# Altium footprint library KF接线端子.PcbLib: 88 footprints (part 4 of 6)
Each footprint in its own frame and in the unit in brackets; x right, y up, seen from the top. Pads: shape width x height; smd on the part's side, far side on the other; paste and mask are expansions set on the pad; w line width, h text height; cw(c..) or ccw(c..) is an arc to the next point about the centre after c.
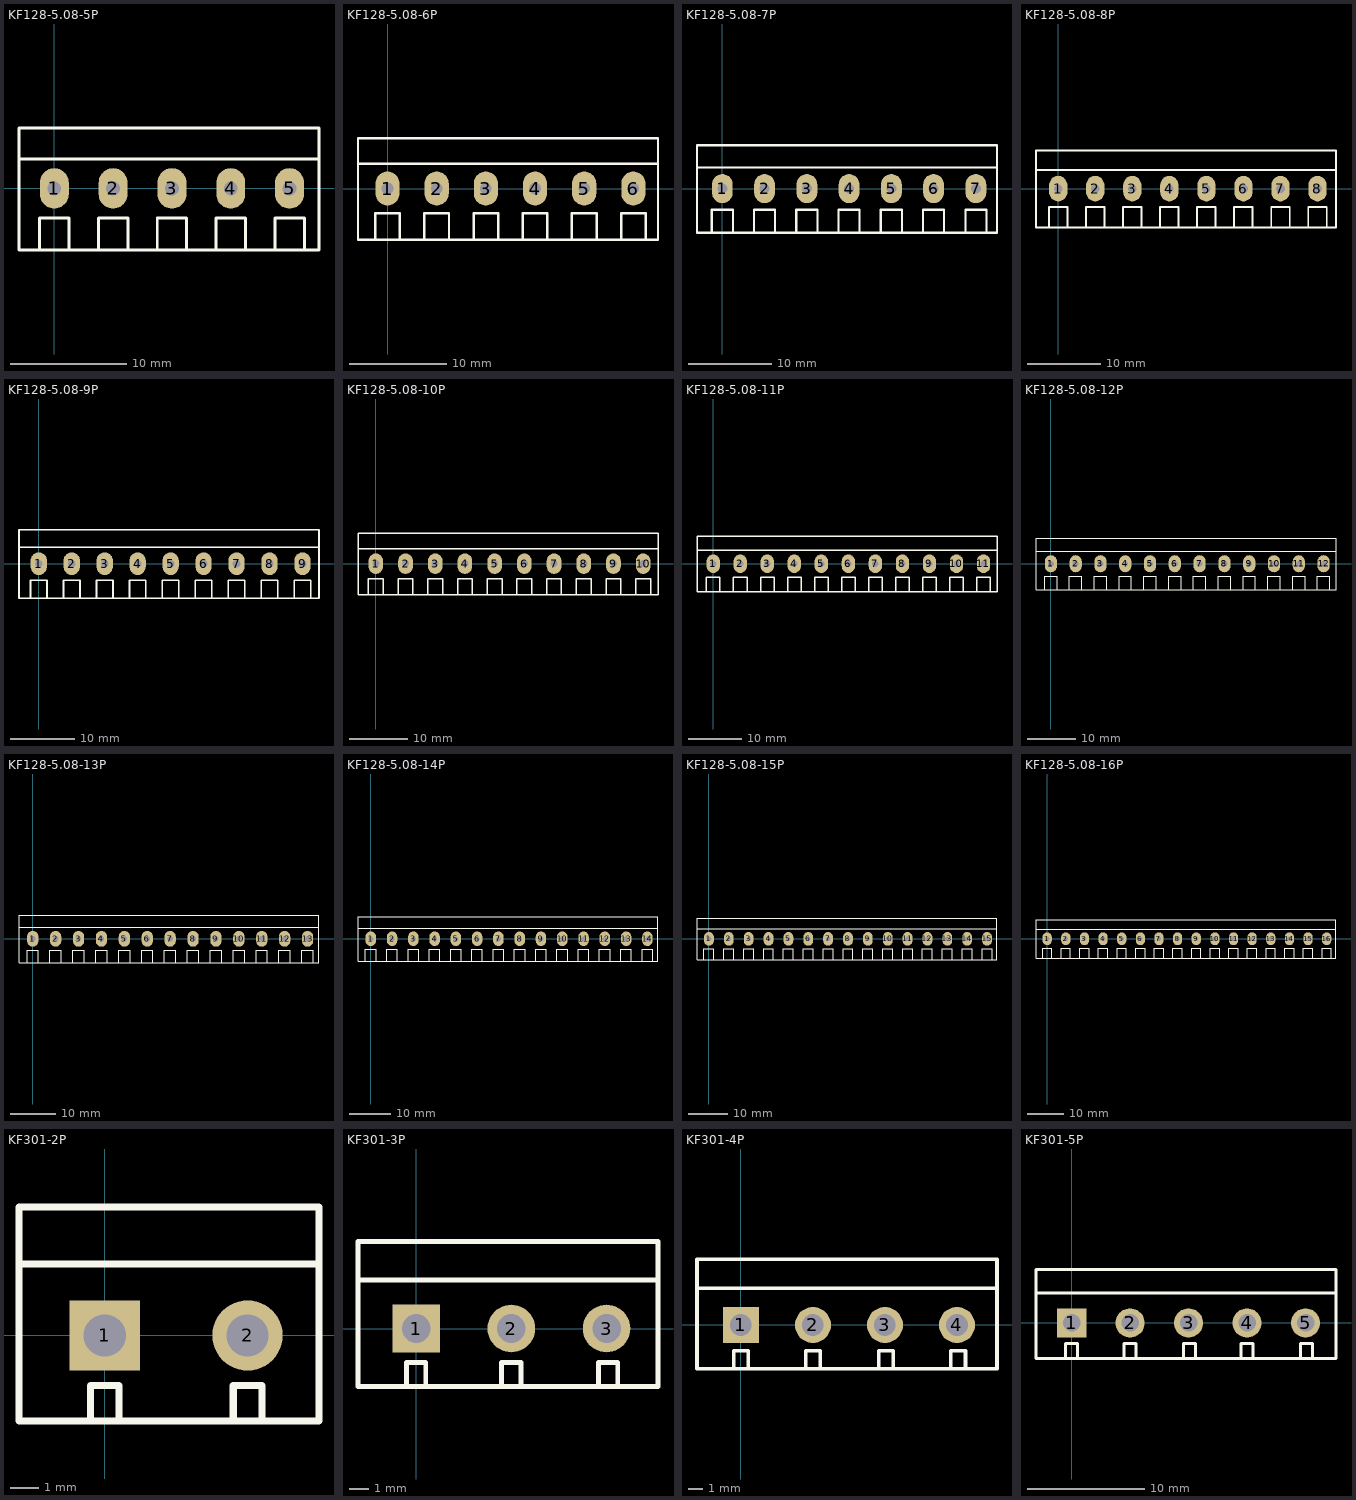
[diagram p3: the footprints below, top view; thin cyan lines are the x and y axes]

## KF128-5.08-5P [mm] "螺钉式接线端子，脚距5.08mm"
pads (5):
  oval 2.5x3.5 hole 1.2: 1(0,0) 2(5.08,0) 3(10.16,0) 4(15.24,0) 5(20.32,0)
Top Overlay:
  lines w0.254: -3.048,2.54 22.86,2.54 ; -1.27,-5.309 -1.27,-2.54 1.27,-2.54 1.27,-5.309 ; 3.81,-5.309 3.81,-2.54 6.35,-2.54 6.35,-5.309 ; 8.89,-5.309 8.89,-2.54 11.43,-2.54 11.43,-5.309 ; 13.97,-5.309 13.97,-2.54 16.51,-2.54 16.51,-5.309 ; 19.05,-5.309 19.05,-2.54 21.59,-2.54 21.59,-5.309 ; -3.048,-5.309 -3.048,5.207 22.86,5.207 22.86,-5.309 -3.048,-5.309
3D body: height 14.15, standoff -3.95, extent 7.12,-5.3 12.7,5.2
3D body: height 14.15, standoff -3.95, extent -3.04,-5.3 2.54,5.2
3D body: height 14.15, standoff -3.95, extent 2.04,-5.3 7.62,5.2
3D body: height 14.15, standoff -3.95, extent 12.2,-5.3 17.78,5.2
3D body: height 14.15, standoff -3.95, extent 17.28,-5.3 22.86,5.2

## KF128-5.08-6P [mm] "螺钉式接线端子，脚距5.08mm"
pads (6):
  oval 2.5x3.5 hole 1.2: 1(0,0) 2(5.08,0) 3(10.16,0) 4(15.24,0) 5(20.32,0) 6(25.4,0)
Top Overlay:
  lines w0.254: -3.048,2.54 27.94,2.54 ; -1.27,-5.309 -1.27,-2.54 1.27,-2.54 1.27,-5.309 ; 3.81,-5.309 3.81,-2.54 6.35,-2.54 6.35,-5.309 ; 8.89,-5.309 8.89,-2.54 11.43,-2.54 11.43,-5.309 ; 13.97,-5.309 13.97,-2.54 16.51,-2.54 16.51,-5.309 ; 19.05,-5.309 19.05,-2.54 21.59,-2.54 21.59,-5.309 ; 24.13,-5.309 24.13,-2.54 26.67,-2.54 26.67,-5.309 ; -3.048,-5.309 27.94,-5.309 27.94,5.207 -3.048,5.207 -3.048,-5.309
3D body: height 14.15, standoff -3.95, extent 17.28,-5.3 22.86,5.2
3D body: height 14.15, standoff -3.95, extent 12.2,-5.3 17.78,5.2
3D body: height 14.15, standoff -3.95, extent 2.04,-5.3 7.62,5.2
3D body: height 14.15, standoff -3.95, extent -3.04,-5.3 2.54,5.2
3D body: height 14.15, standoff -3.95, extent 7.12,-5.3 12.7,5.2
3D body: height 14.15, standoff -3.95, extent 22.36,-5.3 27.94,5.2

## KF128-5.08-7P [mm] "螺钉式接线端子，脚距5.08mm"
pads (7):
  oval 2.5x3.5 hole 1.2: 1(0,0) 2(5.08,0) 3(10.16,0) 4(15.24,0) 5(20.32,0) 6(25.4,0) 7(30.48,0)
Top Overlay:
  lines w0.254: -3.048,2.54 33.02,2.54 ; -1.27,-5.309 -1.27,-2.54 1.27,-2.54 1.27,-5.309 ; 3.81,-5.309 3.81,-2.54 6.35,-2.54 6.35,-5.309 ; 8.89,-5.309 8.89,-2.54 11.43,-2.54 11.43,-5.309 ; 13.97,-5.309 13.97,-2.54 16.51,-2.54 16.51,-5.309 ; 19.05,-5.309 19.05,-2.54 21.59,-2.54 21.59,-5.309 ; 24.13,-5.309 24.13,-2.54 26.67,-2.54 26.67,-5.309 ; 29.21,-5.309 29.21,-2.54 31.75,-2.54 31.75,-5.309 ; -3.048,-5.309 -3.048,5.207 33.02,5.207 33.02,-5.309 -3.048,-5.309
3D body: height 14.15, standoff -3.95, extent 22.36,-5.3 27.94,5.2
3D body: height 14.15, standoff -3.95, extent 7.12,-5.3 12.7,5.2
3D body: height 14.15, standoff -3.95, extent -3.04,-5.3 2.54,5.2
3D body: height 14.15, standoff -3.95, extent 2.04,-5.3 7.62,5.2
3D body: height 14.15, standoff -3.95, extent 12.2,-5.3 17.78,5.2
3D body: height 14.15, standoff -3.95, extent 17.28,-5.3 22.86,5.2
3D body: height 14.15, standoff -3.95, extent 27.44,-5.3 33.02,5.2

## KF128-5.08-8P [mm] "螺钉式接线端子，脚距5.08mm"
pads (8):
  oval 2.5x3.5 hole 1.2: 1(0,0) 2(5.08,0) 3(10.16,0) 4(15.24,0) 5(20.32,0) 6(25.4,0) 7(30.48,0) 8(35.56,0)
Top Overlay:
  lines w0.254: -3.048,2.54 38.1,2.54 ; -1.27,-5.309 -1.27,-2.54 1.27,-2.54 1.27,-5.309 ; 3.81,-5.309 3.81,-2.54 6.35,-2.54 6.35,-5.309 ; 8.89,-5.309 8.89,-2.54 11.43,-2.54 11.43,-5.309 ; 13.97,-5.309 13.97,-2.54 16.51,-2.54 16.51,-5.309 ; 19.05,-5.309 19.05,-2.54 21.59,-2.54 21.59,-5.309 ; 24.13,-5.309 24.13,-2.54 26.67,-2.54 26.67,-5.309 ; 29.21,-5.309 29.21,-2.54 31.75,-2.54 31.75,-5.309 ; 34.29,-5.309 34.29,-2.54 36.83,-2.54 36.83,-5.309 ; -3.048,-5.309 38.1,-5.309 38.1,5.207 -3.048,5.207 -3.048,-5.309
3D body: height 14.15, standoff -3.95, extent 27.44,-5.3 33.02,5.2
3D body: height 14.15, standoff -3.95, extent 17.28,-5.3 22.86,5.2
3D body: height 14.15, standoff -3.95, extent 12.2,-5.3 17.78,5.2
3D body: height 14.15, standoff -3.95, extent 2.04,-5.3 7.62,5.2
3D body: height 14.15, standoff -3.95, extent -3.04,-5.3 2.54,5.2
3D body: height 14.15, standoff -3.95, extent 7.12,-5.3 12.7,5.2
3D body: height 14.15, standoff -3.95, extent 22.36,-5.3 27.94,5.2
3D body: height 14.15, standoff -3.95, extent 32.52,-5.3 38.1,5.2

## KF128-5.08-9P [mm] "螺钉式接线端子，脚距5.08mm"
pads (9):
  oval 2.5x3.5 hole 1.2: 1(0,0) 2(5.08,0) 3(10.16,0) 4(15.24,0) 5(20.32,0) 6(25.4,0) 7(30.48,0) 8(35.56,0) 9(40.64,0)
Top Overlay:
  lines w0.254: -3.048,2.54 43.18,2.54 ; -1.27,-5.309 -1.27,-2.54 1.27,-2.54 1.27,-5.309 ; 3.81,-5.309 3.81,-2.54 6.35,-2.54 6.35,-5.309 ; 8.89,-5.309 8.89,-2.54 11.43,-2.54 11.43,-5.309 ; 13.97,-5.309 13.97,-2.54 16.51,-2.54 16.51,-5.309 ; 19.05,-5.309 19.05,-2.54 21.59,-2.54 21.59,-5.309 ; 24.13,-5.309 24.13,-2.54 26.67,-2.54 26.67,-5.309 ; 29.21,-5.309 29.21,-2.54 31.75,-2.54 31.75,-5.309 ; 34.29,-5.309 34.29,-2.54 36.83,-2.54 36.83,-5.309 ; 39.37,-5.309 39.37,-2.54 41.91,-2.54 41.91,-5.309 ; -3.048,-5.309 -3.048,5.207 43.18,5.207 43.18,-5.309 -3.048,-5.309
3D body: height 14.15, standoff -3.95, extent 32.52,-5.3 38.1,5.2
3D body: height 14.15, standoff -3.95, extent 22.36,-5.3 27.94,5.2
3D body: height 14.15, standoff -3.95, extent 7.12,-5.3 12.7,5.2
3D body: height 14.15, standoff -3.95, extent -3.04,-5.3 2.54,5.2
3D body: height 14.15, standoff -3.95, extent 2.04,-5.3 7.62,5.2
3D body: height 14.15, standoff -3.95, extent 12.2,-5.3 17.78,5.2
3D body: height 14.15, standoff -3.95, extent 17.28,-5.3 22.86,5.2
3D body: height 14.15, standoff -3.95, extent 27.44,-5.3 33.02,5.2
3D body: height 14.15, standoff -3.95, extent 37.6,-5.3 43.18,5.2

## KF128-5.08-10P [mm] "螺钉式接线端子，脚距5.08mm"
pads (10):
  oval 2.5x3.5 hole 1.2: 1(0,0) 2(5.08,0) 3(10.16,0) 4(15.24,0) 5(20.32,0) 6(25.4,0) 7(30.48,0) 8(35.56,0) 9(40.64,0) 10(45.72,0)
Top Overlay:
  lines w0.254: -3.048,2.54 48.26,2.54 ; -1.27,-5.309 -1.27,-2.54 1.27,-2.54 1.27,-5.309 ; 3.81,-5.309 3.81,-2.54 6.35,-2.54 6.35,-5.309 ; 8.89,-5.309 8.89,-2.54 11.43,-2.54 11.43,-5.309 ; 13.97,-5.309 13.97,-2.54 16.51,-2.54 16.51,-5.309 ; 19.05,-5.309 19.05,-2.54 21.59,-2.54 21.59,-5.309 ; 24.13,-5.309 24.13,-2.54 26.67,-2.54 26.67,-5.309 ; 29.21,-5.309 29.21,-2.54 31.75,-2.54 31.75,-5.309 ; 34.29,-5.309 34.29,-2.54 36.83,-2.54 36.83,-5.309 ; 39.37,-5.309 39.37,-2.54 41.91,-2.54 41.91,-5.309 ; 44.45,-5.309 44.45,-2.54 46.99,-2.54 46.99,-5.309 ; -3.048,-5.309 48.26,-5.309 48.26,5.207 -3.048,5.207 -3.048,-5.309
3D body: height 14.15, standoff -3.95, extent 37.6,-5.3 43.18,5.2
3D body: height 14.15, standoff -3.95, extent 27.44,-5.3 33.02,5.2
3D body: height 14.15, standoff -3.95, extent 17.28,-5.3 22.86,5.2
3D body: height 14.15, standoff -3.95, extent 12.2,-5.3 17.78,5.2
3D body: height 14.15, standoff -3.95, extent 2.04,-5.3 7.62,5.2
3D body: height 14.15, standoff -3.95, extent -3.04,-5.3 2.54,5.2
3D body: height 14.15, standoff -3.95, extent 7.12,-5.3 12.7,5.2
3D body: height 14.15, standoff -3.95, extent 22.36,-5.3 27.94,5.2
3D body: height 14.15, standoff -3.95, extent 32.52,-5.3 38.1,5.2
3D body: height 14.15, standoff -3.95, extent 42.68,-5.3 48.26,5.2

## KF128-5.08-11P [mm] "螺钉式接线端子，脚距5.08mm"
pads (11):
  oval 2.5x3.5 hole 1.2: 1(0,0) 2(5.08,0) 3(10.16,0) 4(15.24,0) 5(20.32,0) 6(25.4,0) 7(30.48,0) 8(35.56,0) 9(40.64,0) 10(45.72,0) 11(50.8,0)
Top Overlay:
  lines w0.254: -3.048,2.54 53.34,2.54 ; -1.27,-5.309 -1.27,-2.54 1.27,-2.54 1.27,-5.309 ; 3.81,-5.309 3.81,-2.54 6.35,-2.54 6.35,-5.309 ; 8.89,-5.309 8.89,-2.54 11.43,-2.54 11.43,-5.309 ; 13.97,-5.309 13.97,-2.54 16.51,-2.54 16.51,-5.309 ; 19.05,-5.309 19.05,-2.54 21.59,-2.54 21.59,-5.309 ; 24.13,-5.309 24.13,-2.54 26.67,-2.54 26.67,-5.309 ; 29.21,-5.309 29.21,-2.54 31.75,-2.54 31.75,-5.309 ; 34.29,-5.309 34.29,-2.54 36.83,-2.54 36.83,-5.309 ; 39.37,-5.309 39.37,-2.54 41.91,-2.54 41.91,-5.309 ; 44.45,-5.309 44.45,-2.54 46.99,-2.54 46.99,-5.309 ; 49.53,-5.309 49.53,-2.54 52.07,-2.54 52.07,-5.309 ; -3.048,-5.309 -3.048,5.207 53.34,5.207 53.34,-5.309 -3.048,-5.309
3D body: height 14.15, standoff -3.95, extent 42.68,-5.3 48.26,5.2
3D body: height 14.15, standoff -3.95, extent 32.52,-5.3 38.1,5.2
3D body: height 14.15, standoff -3.95, extent 22.36,-5.3 27.94,5.2
3D body: height 14.15, standoff -3.95, extent 7.12,-5.3 12.7,5.2
3D body: height 14.15, standoff -3.95, extent -3.04,-5.3 2.54,5.2
3D body: height 14.15, standoff -3.95, extent 2.04,-5.3 7.62,5.2
3D body: height 14.15, standoff -3.95, extent 12.2,-5.3 17.78,5.2
3D body: height 14.15, standoff -3.95, extent 17.28,-5.3 22.86,5.2
3D body: height 14.15, standoff -3.95, extent 27.44,-5.3 33.02,5.2
3D body: height 14.15, standoff -3.95, extent 37.6,-5.3 43.18,5.2
3D body: height 14.15, standoff -3.95, extent 47.76,-5.3 53.34,5.2

## KF128-5.08-12P [mm] "螺钉式接线端子，脚距5.08mm"
pads (12):
  oval 2.5x3.5 hole 1.2: 1(0,0) 2(5.08,0) 3(10.16,0) 4(15.24,0) 5(20.32,0) 6(25.4,0) 7(30.48,0) 8(35.56,0) 9(40.64,0) 10(45.72,0) 11(50.8,0) 12(55.88,0)
Top Overlay:
  lines w0.254: -3.048,2.54 58.42,2.54 ; -1.27,-5.309 -1.27,-2.54 1.27,-2.54 1.27,-5.309 ; 3.81,-5.309 3.81,-2.54 6.35,-2.54 6.35,-5.309 ; 8.89,-5.309 8.89,-2.54 11.43,-2.54 11.43,-5.309 ; 13.97,-5.309 13.97,-2.54 16.51,-2.54 16.51,-5.309 ; 19.05,-5.309 19.05,-2.54 21.59,-2.54 21.59,-5.309 ; 24.13,-5.309 24.13,-2.54 26.67,-2.54 26.67,-5.309 ; 29.21,-5.309 29.21,-2.54 31.75,-2.54 31.75,-5.309 ; 34.29,-5.309 34.29,-2.54 36.83,-2.54 36.83,-5.309 ; 39.37,-5.309 39.37,-2.54 41.91,-2.54 41.91,-5.309 ; 44.45,-5.309 44.45,-2.54 46.99,-2.54 46.99,-5.309 ; 49.53,-5.309 49.53,-2.54 52.07,-2.54 52.07,-5.309 ; 54.61,-5.309 54.61,-2.54 57.15,-2.54 57.15,-5.309 ; -3.048,-5.309 58.42,-5.309 58.42,5.207 -3.048,5.207 -3.048,-5.309
3D body: height 14.15, standoff -3.95, extent 47.76,-5.3 53.34,5.2
3D body: height 14.15, standoff -3.95, extent 37.6,-5.3 43.18,5.2
3D body: height 14.15, standoff -3.95, extent 27.44,-5.3 33.02,5.2
3D body: height 14.15, standoff -3.95, extent 17.28,-5.3 22.86,5.2
3D body: height 14.15, standoff -3.95, extent 12.2,-5.3 17.78,5.2
3D body: height 14.15, standoff -3.95, extent 2.04,-5.3 7.62,5.2
3D body: height 14.15, standoff -3.95, extent -3.04,-5.3 2.54,5.2
3D body: height 14.15, standoff -3.95, extent 7.12,-5.3 12.7,5.2
3D body: height 14.15, standoff -3.95, extent 22.36,-5.3 27.94,5.2
3D body: height 14.15, standoff -3.95, extent 32.52,-5.3 38.1,5.2
3D body: height 14.15, standoff -3.95, extent 42.68,-5.3 48.26,5.2
3D body: height 14.15, standoff -3.95, extent 52.84,-5.3 58.42,5.2

## KF128-5.08-13P [mm] "螺钉式接线端子，脚距5.08mm"
pads (13):
  oval 2.5x3.5 hole 1.2: 1(0,0) 2(5.08,0) 3(10.16,0) 4(15.24,0) 5(20.32,0) 6(25.4,0) 7(30.48,0) 8(35.56,0) 9(40.64,0) 10(45.72,0) 11(50.8,0) 12(55.88,0) 13(60.96,0)
Top Overlay:
  lines w0.254: -3.048,2.54 63.5,2.54 ; -1.27,-5.309 -1.27,-2.54 1.27,-2.54 1.27,-5.309 ; 3.81,-5.309 3.81,-2.54 6.35,-2.54 6.35,-5.309 ; 8.89,-5.309 8.89,-2.54 11.43,-2.54 11.43,-5.309 ; 13.97,-5.309 13.97,-2.54 16.51,-2.54 16.51,-5.309 ; 19.05,-5.309 19.05,-2.54 21.59,-2.54 21.59,-5.309 ; 24.13,-5.309 24.13,-2.54 26.67,-2.54 26.67,-5.309 ; 29.21,-5.309 29.21,-2.54 31.75,-2.54 31.75,-5.309 ; 34.29,-5.309 34.29,-2.54 36.83,-2.54 36.83,-5.309 ; 39.37,-5.309 39.37,-2.54 41.91,-2.54 41.91,-5.309 ; 44.45,-5.309 44.45,-2.54 46.99,-2.54 46.99,-5.309 ; 49.53,-5.309 49.53,-2.54 52.07,-2.54 52.07,-5.309 ; 54.61,-5.309 54.61,-2.54 57.15,-2.54 57.15,-5.309 ; 59.69,-5.309 59.69,-2.54 62.23,-2.54 62.23,-5.309 ; -3.048,-5.309 -3.048,5.207 63.5,5.207 63.5,-5.309 -3.048,-5.309
3D body: height 14.15, standoff -3.95, extent 52.84,-5.3 58.42,5.2
3D body: height 14.15, standoff -3.95, extent 42.68,-5.3 48.26,5.2
3D body: height 14.15, standoff -3.95, extent 32.52,-5.3 38.1,5.2
3D body: height 14.15, standoff -3.95, extent 22.36,-5.3 27.94,5.2
3D body: height 14.15, standoff -3.95, extent 7.12,-5.3 12.7,5.2
3D body: height 14.15, standoff -3.95, extent -3.04,-5.3 2.54,5.2
3D body: height 14.15, standoff -3.95, extent 2.04,-5.3 7.62,5.2
3D body: height 14.15, standoff -3.95, extent 12.2,-5.3 17.78,5.2
3D body: height 14.15, standoff -3.95, extent 17.28,-5.3 22.86,5.2
3D body: height 14.15, standoff -3.95, extent 27.44,-5.3 33.02,5.2
3D body: height 14.15, standoff -3.95, extent 37.6,-5.3 43.18,5.2
3D body: height 14.15, standoff -3.95, extent 47.76,-5.3 53.34,5.2
3D body: height 14.15, standoff -3.95, extent 57.92,-5.3 63.5,5.2

## KF128-5.08-14P [mm] "螺钉式接线端子，脚距5.08mm"
pads (14):
  oval 2.5x3.5 hole 1.2: 1(0,0) 2(5.08,0) 3(10.16,0) 4(15.24,0) 5(20.32,0) 6(25.4,0) 7(30.48,0) 8(35.56,0) 9(40.64,0) 10(45.72,0) 11(50.8,0) 12(55.88,0) 13(60.96,0) 14(66.04,0)
Top Overlay:
  lines w0.254: -3.048,2.54 68.58,2.54 ; -1.27,-5.309 -1.27,-2.54 1.27,-2.54 1.27,-5.309 ; 3.81,-5.309 3.81,-2.54 6.35,-2.54 6.35,-5.309 ; 8.89,-5.309 8.89,-2.54 11.43,-2.54 11.43,-5.309 ; 13.97,-5.309 13.97,-2.54 16.51,-2.54 16.51,-5.309 ; 19.05,-5.309 19.05,-2.54 21.59,-2.54 21.59,-5.309 ; 24.13,-5.309 24.13,-2.54 26.67,-2.54 26.67,-5.309 ; 29.21,-5.309 29.21,-2.54 31.75,-2.54 31.75,-5.309 ; 34.29,-5.309 34.29,-2.54 36.83,-2.54 36.83,-5.309 ; 39.37,-5.309 39.37,-2.54 41.91,-2.54 41.91,-5.309 ; 44.45,-5.309 44.45,-2.54 46.99,-2.54 46.99,-5.309 ; 49.53,-5.309 49.53,-2.54 52.07,-2.54 52.07,-5.309 ; 54.61,-5.309 54.61,-2.54 57.15,-2.54 57.15,-5.309 ; 59.69,-5.309 59.69,-2.54 62.23,-2.54 62.23,-5.309 ; 64.77,-5.309 64.77,-2.54 67.31,-2.54 67.31,-5.309 ; -3.048,-5.309 68.58,-5.309 68.58,5.207 -3.048,5.207 -3.048,-5.309
3D body: height 14.15, standoff -3.95, extent 57.92,-5.3 63.5,5.2
3D body: height 14.15, standoff -3.95, extent 47.76,-5.3 53.34,5.2
3D body: height 14.15, standoff -3.95, extent 37.6,-5.3 43.18,5.2
3D body: height 14.15, standoff -3.95, extent 27.44,-5.3 33.02,5.2
3D body: height 14.15, standoff -3.95, extent 17.28,-5.3 22.86,5.2
3D body: height 14.15, standoff -3.95, extent 12.2,-5.3 17.78,5.2
3D body: height 14.15, standoff -3.95, extent 2.04,-5.3 7.62,5.2
3D body: height 14.15, standoff -3.95, extent -3.04,-5.3 2.54,5.2
3D body: height 14.15, standoff -3.95, extent 7.12,-5.3 12.7,5.2
3D body: height 14.15, standoff -3.95, extent 22.36,-5.3 27.94,5.2
3D body: height 14.15, standoff -3.95, extent 32.52,-5.3 38.1,5.2
3D body: height 14.15, standoff -3.95, extent 42.68,-5.3 48.26,5.2
3D body: height 14.15, standoff -3.95, extent 52.84,-5.3 58.42,5.2
3D body: height 14.15, standoff -3.95, extent 63,-5.3 68.58,5.2

## KF128-5.08-15P [mm] "螺钉式接线端子，脚距5.08mm"
pads (15):
  oval 2.5x3.5 hole 1.2: 1(0,0) 2(5.08,0) 3(10.16,0) 4(15.24,0) 5(20.32,0) 6(25.4,0) 7(30.48,0) 8(35.56,0) 9(40.64,0) 10(45.72,0) 11(50.8,0) 12(55.88,0) 13(60.96,0) 14(66.04,0) 15(71.12,0)
Top Overlay:
  lines w0.254: -3.048,2.54 73.66,2.54 ; -1.27,-5.309 -1.27,-2.54 1.27,-2.54 1.27,-5.309 ; 3.81,-5.309 3.81,-2.54 6.35,-2.54 6.35,-5.309 ; 8.89,-5.309 8.89,-2.54 11.43,-2.54 11.43,-5.309 ; 13.97,-5.309 13.97,-2.54 16.51,-2.54 16.51,-5.309 ; 19.05,-5.309 19.05,-2.54 21.59,-2.54 21.59,-5.309 ; 24.13,-5.309 24.13,-2.54 26.67,-2.54 26.67,-5.309 ; 29.21,-5.309 29.21,-2.54 31.75,-2.54 31.75,-5.309 ; 34.29,-5.309 34.29,-2.54 36.83,-2.54 36.83,-5.309 ; 39.37,-5.309 39.37,-2.54 41.91,-2.54 41.91,-5.309 ; 44.45,-5.309 44.45,-2.54 46.99,-2.54 46.99,-5.309 ; 49.53,-5.309 49.53,-2.54 52.07,-2.54 52.07,-5.309 ; 54.61,-5.309 54.61,-2.54 57.15,-2.54 57.15,-5.309 ; 59.69,-5.309 59.69,-2.54 62.23,-2.54 62.23,-5.309 ; 64.77,-5.309 64.77,-2.54 67.31,-2.54 67.31,-5.309 ; 69.85,-5.309 69.85,-2.54 72.39,-2.54 72.39,-5.309 ; -3.048,-5.309 -3.048,5.207 73.66,5.207 73.66,-5.309 -3.048,-5.309
3D body: height 14.15, standoff -3.95, extent 63,-5.3 68.58,5.2
3D body: height 14.15, standoff -3.95, extent 52.84,-5.3 58.42,5.2
3D body: height 14.15, standoff -3.95, extent 42.68,-5.3 48.26,5.2
3D body: height 14.15, standoff -3.95, extent 32.52,-5.3 38.1,5.2
3D body: height 14.15, standoff -3.95, extent 22.36,-5.3 27.94,5.2
3D body: height 14.15, standoff -3.95, extent 7.12,-5.3 12.7,5.2
3D body: height 14.15, standoff -3.95, extent -3.04,-5.3 2.54,5.2
3D body: height 14.15, standoff -3.95, extent 2.04,-5.3 7.62,5.2
3D body: height 14.15, standoff -3.95, extent 12.2,-5.3 17.78,5.2
3D body: height 14.15, standoff -3.95, extent 17.28,-5.3 22.86,5.2
3D body: height 14.15, standoff -3.95, extent 27.44,-5.3 33.02,5.2
3D body: height 14.15, standoff -3.95, extent 37.6,-5.3 43.18,5.2
3D body: height 14.15, standoff -3.95, extent 47.76,-5.3 53.34,5.2
3D body: height 14.15, standoff -3.95, extent 57.92,-5.3 63.5,5.2
3D body: height 14.15, standoff -3.95, extent 68.08,-5.3 73.66,5.2

## KF128-5.08-16P [mm] "螺钉式接线端子，脚距5.08mm"
pads (16):
  oval 2.5x3.5 hole 1.2: 1(0,0) 2(5.08,0) 3(10.16,0) 4(15.24,0) 5(20.32,0) 6(25.4,0) 7(30.48,0) 8(35.56,0) 9(40.64,0) 10(45.72,0) 11(50.8,0) 12(55.88,0) 13(60.96,0) 14(66.04,0) 15(71.12,0) 16(76.2,0)
Top Overlay:
  lines w0.254: -3.048,2.54 78.74,2.54 ; -1.27,-5.309 -1.27,-2.54 1.27,-2.54 1.27,-5.309 ; 3.81,-5.309 3.81,-2.54 6.35,-2.54 6.35,-5.309 ; 8.89,-5.309 8.89,-2.54 11.43,-2.54 11.43,-5.309 ; 13.97,-5.309 13.97,-2.54 16.51,-2.54 16.51,-5.309 ; 19.05,-5.309 19.05,-2.54 21.59,-2.54 21.59,-5.309 ; 24.13,-5.309 24.13,-2.54 26.67,-2.54 26.67,-5.309 ; 29.21,-5.309 29.21,-2.54 31.75,-2.54 31.75,-5.309 ; 34.29,-5.309 34.29,-2.54 36.83,-2.54 36.83,-5.309 ; 39.37,-5.309 39.37,-2.54 41.91,-2.54 41.91,-5.309 ; 44.45,-5.309 44.45,-2.54 46.99,-2.54 46.99,-5.309 ; 49.53,-5.309 49.53,-2.54 52.07,-2.54 52.07,-5.309 ; 54.61,-5.309 54.61,-2.54 57.15,-2.54 57.15,-5.309 ; 59.69,-5.309 59.69,-2.54 62.23,-2.54 62.23,-5.309 ; 64.77,-5.309 64.77,-2.54 67.31,-2.54 67.31,-5.309 ; 69.85,-5.309 69.85,-2.54 72.39,-2.54 72.39,-5.309 ; 74.93,-5.309 74.93,-2.54 77.47,-2.54 77.47,-5.309 ; -3.048,-5.309 78.74,-5.309 78.74,5.207 -3.048,5.207 -3.048,-5.309
3D body: height 14.15, standoff -3.95, extent 68.08,-5.3 73.66,5.2
3D body: height 14.15, standoff -3.95, extent 57.92,-5.3 63.5,5.2
3D body: height 14.15, standoff -3.95, extent 47.76,-5.3 53.34,5.2
3D body: height 14.15, standoff -3.95, extent 37.6,-5.3 43.18,5.2
3D body: height 14.15, standoff -3.95, extent 27.44,-5.3 33.02,5.2
3D body: height 14.15, standoff -3.95, extent 17.28,-5.3 22.86,5.2
3D body: height 14.15, standoff -3.95, extent 12.2,-5.3 17.78,5.2
3D body: height 14.15, standoff -3.95, extent 2.04,-5.3 7.62,5.2
3D body: height 14.15, standoff -3.95, extent -3.04,-5.3 2.54,5.2
3D body: height 14.15, standoff -3.95, extent 7.12,-5.3 12.7,5.2
3D body: height 14.15, standoff -3.95, extent 22.36,-5.3 27.94,5.2
3D body: height 14.15, standoff -3.95, extent 32.52,-5.3 38.1,5.2
3D body: height 14.15, standoff -3.95, extent 42.68,-5.3 48.26,5.2
3D body: height 14.15, standoff -3.95, extent 52.84,-5.3 58.42,5.2
3D body: height 14.15, standoff -3.95, extent 63,-5.3 68.58,5.2
3D body: height 14.15, standoff -3.95, extent 73.16,-5.3 78.74,5.2

## KF301-2P [mm] "可拼接端子/6A"
pads (2):
  rect 2.5x2.5 hole 1.5: 1(0,0)
  round 2.5 hole 1.5: 2(5.08,0)
Top Overlay:
  lines w0.254: -3.048,2.54 7.62,2.54 ; -0.508,-3.048 -0.508,-1.778 0.508,-1.778 0.508,-3.048 ; 4.572,-3.048 4.572,-1.778 5.588,-1.778 5.588,-3.048 ; -3.048,-3.048 7.62,-3.048 7.62,4.572 -3.048,4.572 -3.048,-3.048
3D body: height 10.05, standoff -3.75, extent 2.13,-3 7.63,4.6
3D body: height 10.05, standoff -3.75, extent -2.87,-3 2.63,4.6

## KF301-3P [mm] "可拼接端子/6A"
pads (3):
  rect 2.5x2.5 hole 1.5: 1(0,0)
  round 2.5 hole 1.5: 2(5,0) 3(10,0)
Top Overlay:
  lines w0.254: -3.048,2.54 12.7,2.54 ; -0.508,-3.048 -0.508,-1.778 0.508,-1.778 0.508,-3.048 ; 4.492,-3.048 4.492,-1.778 5.508,-1.778 5.508,-3.048 ; 9.572,-3.048 9.572,-1.778 10.588,-1.778 10.588,-3.048 ; -3.048,-3.048 12.7,-3.048 12.7,4.572 -3.048,4.572 -3.048,-3.048
3D body: height 10.05, standoff -3.75, extent -2.87,-3 2.63,4.6
3D body: height 10.05, standoff -3.75, extent 2.13,-3 7.63,4.6
3D body: height 10.05, standoff -3.75, extent 7.13,-3 12.63,4.6

## KF301-4P [mm] "可拼接端子/6A"
pads (4):
  rect 2.5x2.5 hole 1.5: 1(0,0)
  round 2.5 hole 1.5: 2(5,0) 3(10,0) 4(15,0)
Top Overlay:
  lines w0.254: -3.048,2.54 17.78,2.54 ; -0.508,-3.048 -0.508,-1.778 0.508,-1.778 0.508,-3.048 ; 4.492,-3.048 4.492,-1.778 5.508,-1.778 5.508,-3.048 ; 9.572,-3.048 9.572,-1.778 10.588,-1.778 10.588,-3.048 ; 14.572,-3.048 14.572,-1.778 15.588,-1.778 15.588,-3.048 ; -3.048,-3.048 17.78,-3.048 17.78,4.572 -3.048,4.572 -3.048,-3.048
3D body: height 10.05, standoff -3.75, extent 12.13,-3 17.63,4.6
3D body: height 10.05, standoff -3.75, extent 7.13,-3 12.63,4.6
3D body: height 10.05, standoff -3.75, extent 2.13,-3 7.63,4.6
3D body: height 10.05, standoff -3.75, extent -2.87,-3 2.63,4.6

## KF301-5P [mm] "可拼接端子/6A"
pads (5):
  rect 2.5x2.5 hole 1.5: 1(0,0)
  round 2.5 hole 1.5: 2(5,0) 3(10,0) 4(15,0) 5(20,0)
Top Overlay:
  lines w0.254: -3.048,2.54 22.606,2.54 ; -0.508,-3.048 -0.508,-1.778 0.508,-1.778 0.508,-3.048 ; 4.492,-3.048 4.492,-1.778 5.508,-1.778 5.508,-3.048 ; 9.572,-3.048 9.572,-1.778 10.588,-1.778 10.588,-3.048 ; 14.492,-3.048 14.492,-1.778 15.508,-1.778 15.508,-3.048 ; 19.572,-3.048 19.572,-1.778 20.588,-1.778 20.588,-3.048 ; -3.048,-3.048 22.606,-3.048 22.606,4.572 -3.048,4.572 -3.048,-3.048
3D body: height 10.05, standoff -3.75, extent -2.87,-3 2.63,4.6
3D body: height 10.05, standoff -3.75, extent 2.05,-3 7.55,4.6
3D body: height 10.05, standoff -3.75, extent 7.05,-3 12.55,4.6
3D body: height 10.05, standoff -3.75, extent 12.05,-3 17.55,4.6
3D body: height 10.05, standoff -3.75, extent 17.05,-3 22.55,4.6